# EAGLE library part CDC3RL02 (library texas)
TWO-CHANNEL CLOCK FAN-OUT BUFFER
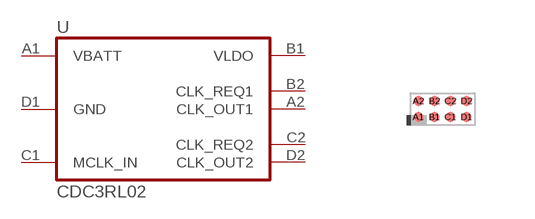
[diagram p49: symbol with the pads of DSBGA-8; footprint DSBGA-8]

Designator prefix U

## CDC3RL02  [DSBGA-8]
A1  VBATT  pwr
A2  CLK_OUT1  out
B1  VLDO  out
B2  CLK_REQ1  in
C1  MCLK_IN  in
C2  CLK_REQ2  in
D1  GND  pwr
D2  CLK_OUT2  out

## Footprint DSBGA-8 (pad centres in mm)
DIE-SIZE BALL GRID ARRAY - YFP (R-XBGA-N8) ball pitch 0.4mm, body 1.6 x 0.8mm
smd 0.25 x 0.25: A1 -0.6,-0.2; A2 -0.6,0.2; B1 -0.2,-0.2; B2 -0.2,0.2; C1 0.2,-0.2; C2 0.2,0.2; D1 0.6,-0.2; D2 0.6,0.2